# Altium footprint library ISP_medium_pcb.PcbLib: 17 footprints (part 1 of 2)
Each footprint in its own frame and in the unit in brackets; x right, y up, seen from the top. Pads: shape width x height; smd on the part's side, far side on the other; paste and mask are expansions set on the pad; w line width, h text height; cw(c..) or ccw(c..) is an arc to the next point about the centre after c.
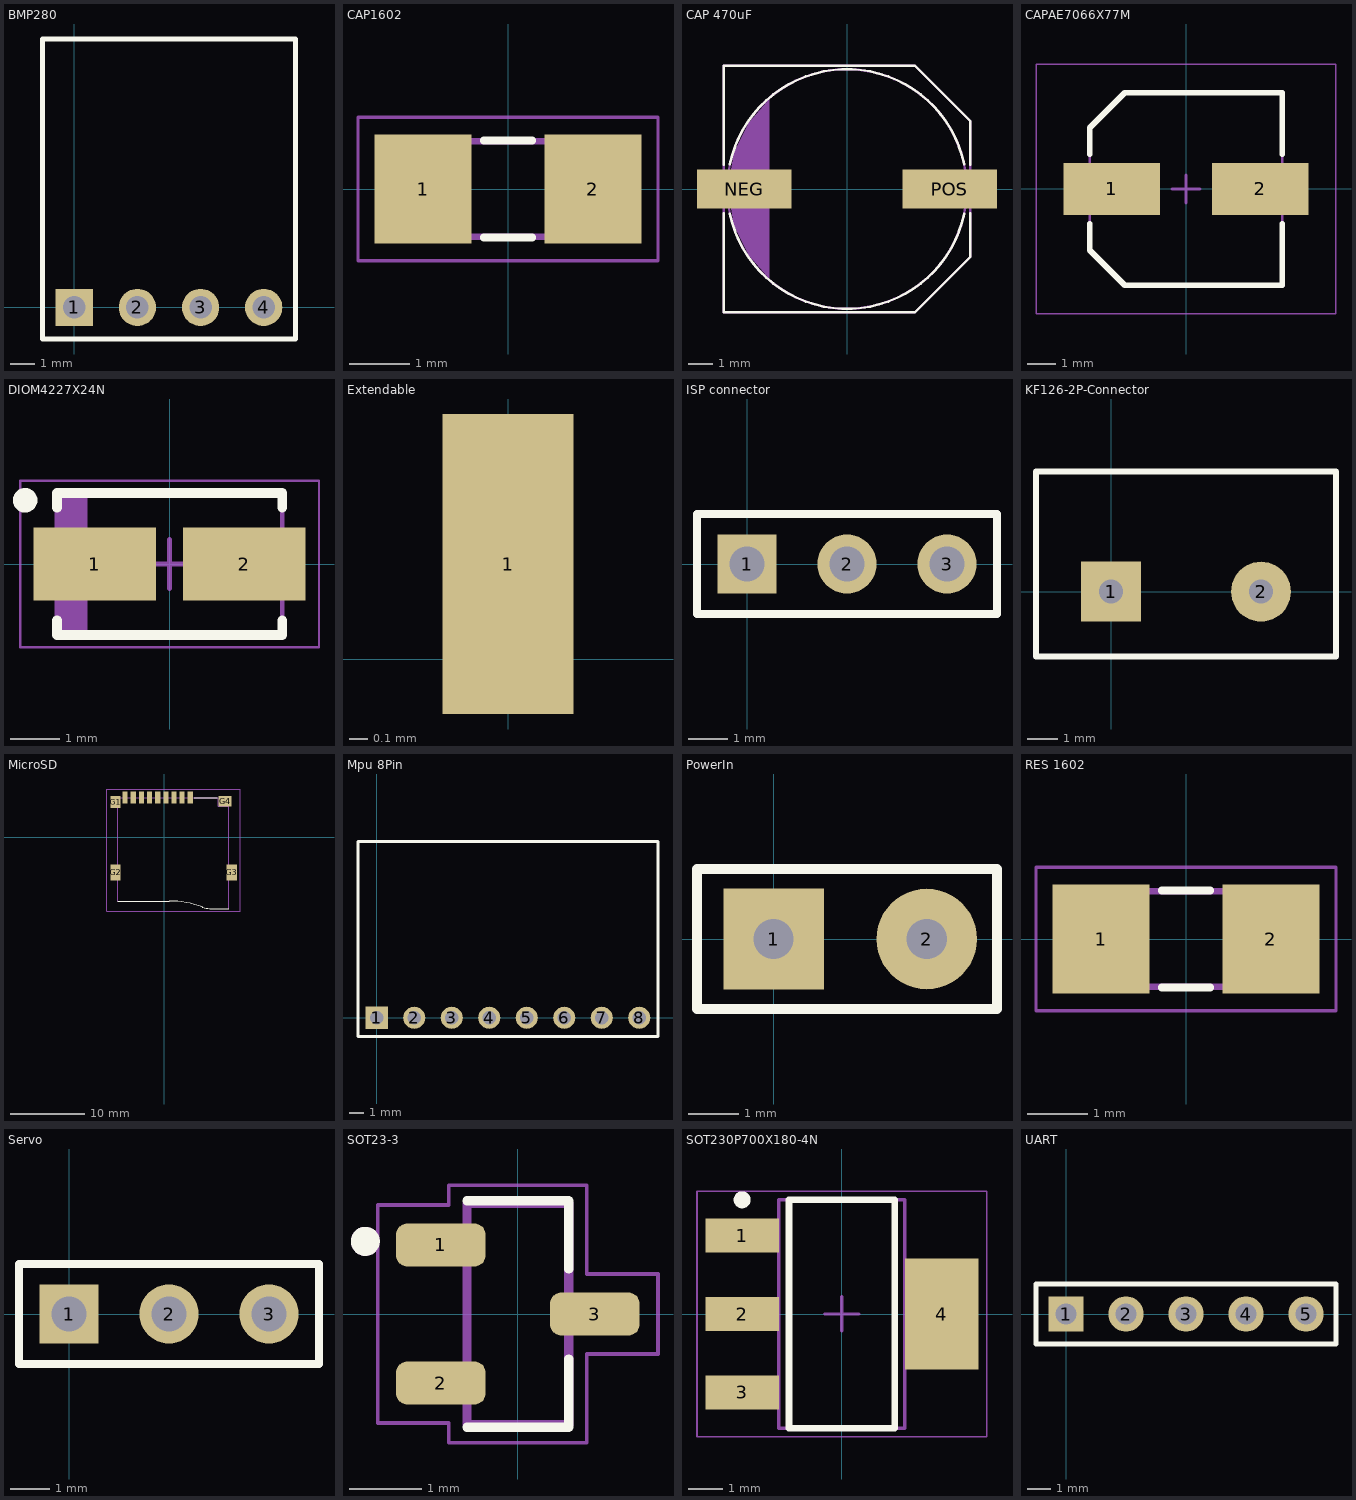
[diagram p0: the footprints below, top view; thin cyan lines are the x and y axes]

## BMP280 [mm] "Connector; 4 Pins for I2C"
pads (4):
  rect 1.5x1.5 hole 0.9: 1(0,0)
  round 1.5 hole 0.9: 2(2.54,0) 3(5.08,0) 4(7.62,0)
Top Overlay:
  lines w0.2: -1.27,-1.27 -1.27,10.795 8.89,10.795 8.89,-1.27 -1.27,-1.27

## CAP1602 [mm]
height 8.2
pads (2):
  rect 1.6x1.8 smd: 1(-1.4,0) 2(1.4,0)
Top Overlay:
  lines w0.127: -0.4,-0.8 0.4,-0.8 ; -0.4,0.8 0.4,0.8
Mechanical 13:
  region: -0.952,-0.851 -1.702,-0.851 -1.702,0.849 -0.952,0.849
  region: 1.702,-0.849 0.952,-0.849 0.952,0.851 1.702,0.851
  lines w0.102: -0.965,-0.787 0.965,-0.787 ; -0.965,0.787 0.965,0.787
Mechanical 15:
  lines w0.051: -2.473,-1.183 2.473,-1.183 2.473,1.183 -2.473,1.183 -2.473,-1.183

## CAP 470uF [mm]
height 8.2
pads (2):
  rect 3.9x1.6 smd: NEG(-4.25,0) POS(4.25,0)
Top Overlay:
  lines w0.102: -5.1,-1 -5.1,-5.1 2.8,-5.1 5.1,-2.8 5.1,-1 ; -5.1,1 -5.1,5.1 2.8,5.1 5.1,2.8 5.1,1 ; -4.844,-1.03 ccw(c0,0) 4.844,-1.03 ; -4.844,1.03 cw(c0,0) 4.844,1.03
Mechanical 13:
  circle w0.102: c0,0 r4.95
  region: -3.3,3.55 -3.3,-3.6 -4.05,-2.75 -4.65,-1.55 -4.85,-0.45 -4.85,0.45 -4.65,1.55 -4.05,2.75 -3.3,3.6
  region: 5.85,-0.45 4.905,-0.45 4.905,0.45 5.85,0.45
  region: -4.9,-0.45 -5.852,-0.45 -5.852,0.45 -4.9,0.45
  lines w0.102: -3.25,-3.65 -3.25,3.7 ; -5.1,-5.1 -5.1,5.1 2.8,5.1 5.1,2.8 5.1,-2.8 2.8,-5.1 -5.1,-5.1

## CAPAE7066X77M [mm] "Aluminum Electrolytic Capacitor, Body 6.60x6.60x7.70mm, IPC Low Density"
height 7.7
pads (2):
  rect 3.4x1.85 smd: 1(-2.625,0) 2(2.625,0)
Top Overlay:
  lines w0.2: -3.4,-1.225 -3.4,-2.163 -2.163,-3.4 3.4,-3.4 3.4,-1.225 ; -3.4,1.225 -3.4,2.163 -2.163,3.4 3.4,3.4 3.4,1.225
Mechanical 13:
  lines w0.1: -3.4,-2.163 -3.4,2.163 -2.163,3.4 3.4,3.4 3.4,-3.4 -2.163,-3.4 -3.4,-2.163
Mechanical 15:
  lines w0.05: -5.3,-4.4 5.3,-4.4 5.3,4.4 -5.3,4.4 -5.3,-4.4
  lines w0.1: -0.5,0 0.5,0 ; 0,-0.5 0,0.5
3D body: height 7.7, standoff 0, extent -3.25,-3.25 3.25,3.243
3D body: height 2.57, standoff 0, extent -3.4,-3.4 3.4,3.4

## DIOM4227X24N [mm] "Molded Diode, 2-Leads, Body 4.25x2.69mm, IPC Medium Density"
height 2.44
pads (2):
  rect 2.5x1.5 smd: 1(-1.525,0) 2(1.525,0)
Top Overlay:
  circle w0.25: c-2.95,1.3 r0.125
  lines w0.2: -2.3,-1.15 -2.3,-1.45 2.3,-1.45 2.3,-1.15 ; -2.3,1.15 -2.3,1.45 2.3,1.45 2.3,1.15
Mechanical 13:
  rectangle: -2.3,-1.445 -1.681,1.445
  lines w0.1: -2.3,-1.445 2.3,-1.445 2.3,1.445 -2.3,1.445 -2.3,-1.445
Mechanical 15:
  lines w0.05: -3.05,-1.7 3.05,-1.7 3.05,1.7 -3.05,1.7 -3.05,-1.7
  lines w0.1: -0.5,0 0.5,0 ; 0,-0.5 0,0.5
3D body: height 2.44, standoff 0, extent -2.3,-1.445 2.3,1.445

## Extendable [mm]
pads (1):
  rect 0.7x1.6 smd: 1(0,0.508)

## ISP connector [mm] "Connector; Header; 3 Position"
height 8.2
pads (3):
  rect 1.5x1.5 hole 0.9: 1(0,0)
  round 1.5 hole 0.9: 2(2.54,0) 3(5.08,0)
Top Overlay:
  lines w0.2: -1.27,-1.27 6.35,-1.27 6.35,1.27 -1.27,1.27 -1.27,-1.27

## KF126-2P-Connector [mm] "Connector; Header; 2 Position"
height 8.2
pads (2):
  rect 2x2 hole 0.8: 1(0,0)
  round 2 hole 0.8: 2(5,0)
Top Overlay:
  lines w0.2: 7.493,4 7.498,-2.159 -2.5,-2.159 -2.5,4 7.5,4

## MicroSD [mm]
height 8.2
pads (13):
  rect 0.7x1.6 smd: 1(3.52,5.33) 2(2.42,5.33) 3(1.32,5.33) 4(0.22,5.33) 5(-0.88,5.33) 6(-1.98,5.33) 7(-3.08,5.33) 8(-4.18,5.33) 9(-5.28,5.33)
  rect 1.4x1.6 smd: G1(-6.58,4.73)
  rect 1.4x2.2 smd: G2(-6.58,-4.77) G3(9.12,-4.77)
  rect 1.8x1.4 smd: G4(8.22,4.83)
Top Overlay:
  lines w0.127: -6.287,-8.64 0.647,-8.64 cw(c0.647,-21.34) 5.198,-9.484 ; 4.07,5.33 7.17,5.33 ; 5.161,-9.469 ccw(c6.168,-6.847) 6.168,-9.656 8.699,-9.656
Mechanical 13:
  lines w0.127: -6.287,-8.64 -6.287,5.33 7.302,5.33 7.302,4.187 8.699,4.187 8.699,-9.656
Mechanical 15:
  lines w0.127: -7.75,-10 10.25,-10 10.25,6.5 -7.75,6.5 -7.75,-10

## Mpu 8Pin [mm] "Connector; Header; 8 Position"
height 8.2
pads (8):
  rect 1.5x1.5 hole 0.9: 1(0,0)
  round 1.5 hole 0.9: 2(2.54,0) 3(5.08,0) 4(7.62,0) 5(10.16,0) 6(12.7,0) 7(15.24,0) 8(17.78,0)
Top Overlay:
  lines w0.2: -1.27,-1.27 -1.27,11.938 19.05,11.938 19.05,-1.27 -1.27,-1.27

## PowerIn [mm] "Connector; Header; 2 Position"
height 8.2
pads (2):
  rect 2x2 hole 0.8: 1(0,0)
  round 2 hole 0.8: 2(3.048,0)
Top Overlay:
  lines w0.2: -1.524,-1.397 4.445,-1.397 4.445,1.397 -1.524,1.397 -1.524,-1.397

## RES 1602 [mm]
height 3
pads (2):
  rect 1.6x1.8 smd: 1(-1.4,0) 2(1.4,0)
Top Overlay:
  lines w0.127: -0.4,-0.8 0.4,-0.8 ; -0.4,0.8 0.4,0.8
Mechanical 13:
  region: -0.952,-0.851 -1.702,-0.851 -1.702,0.849 -0.952,0.849
  region: 1.702,-0.849 0.952,-0.849 0.952,0.851 1.702,0.851
  lines w0.102: -0.965,-0.787 0.965,-0.787 ; -0.965,0.787 0.965,0.787
Mechanical 15:
  lines w0.051: -2.473,-1.183 2.473,-1.183 2.473,1.183 -2.473,1.183 -2.473,-1.183

## Servo [mm] "Connector; Header; 3 Position"
height 8.2
pads (3):
  rect 1.5x1.5 hole 0.9: 1(0,0)
  round 1.5 hole 0.9: 2(2.54,0) 3(5.08,0)
Top Overlay:
  lines w0.2: -1.27,-1.27 6.35,-1.27 6.35,1.27 -1.27,1.27 -1.27,-1.27

## SOT23-3 [mm]
height 8.2
pads (3):
  rrect50% 1.23x0.59 smd: 1(-1.06,0.95) 2(-1.06,-0.95) 3(1.06,0)
Top Overlay:
  circle w0.2: c-2.1,1 r0.1
  lines w0.127: -0.7,-1.56 0.7,-1.56 0.7,-0.62 ; -0.7,1.56 0.7,1.56 0.7,0.62
Mechanical 13:
  circle w0.2: c-2.1,1 r0.1
  lines w0.127: -0.7,-1.52 -0.7,1.52 0.7,1.52 0.7,-1.52 -0.7,-1.52
Mechanical 15:
  lines w0.05: -1.93,-1.5 -1.93,1.5 -0.95,1.5 -0.95,1.77 0.95,1.77 0.95,0.55 1.93,0.55 1.93,-0.55 0.95,-0.55 0.95,-1.77 -0.95,-1.77 -0.95,-1.5 -1.93,-1.5

## SOT230P700X180-4N [mm] "SOT223, 4-Leads, Body 6.50x7.00mm (avg), Pitch 2.30mm, IPC Medium Density"
height 1.8
pads (4):
  rect 2.15x1 smd: 1(-2.925,2.3) 2(-2.925,0) 3(-2.925,-2.3)
  rect 2.15x3.25 smd: 4(2.925,0)
Top Overlay:
  circle w0.25: c-2.925,3.35 r0.125
  lines w0.2: -1.55,-3.35 1.55,-3.35 1.55,3.35 -1.55,3.35 -1.55,-3.35
Mechanical 13:
  lines w0.1: -1.85,-3.35 1.85,-3.35 1.85,3.35 -1.85,3.35 -1.85,-3.35
Mechanical 15:
  lines w0.05: -4.25,-3.6 4.25,-3.6 4.25,3.6 -4.25,3.6 -4.25,-3.6
  lines w0.1: -0.5,0 0.5,0 ; 0,-0.5 0,0.5
3D body: height 1.8, standoff 0.02, extent -1.85,-3.35 1.85,3.35

## UART [mm] "Connector; Header; 5 Position, UART, for uploading"
height 8.2
pads (5):
  rect 1.5x1.5 hole 0.9: 1(0,0)
  round 1.5 hole 0.9: 2(2.54,0) 3(5.08,0) 4(7.62,0) 5(10.16,0)
Top Overlay:
  lines w0.2: -1.27,-1.27 -1.27,1.27 11.43,1.27 11.43,-1.27 -1.27,-1.27